# Altium footprint library AZ1143-04F.PcbLib: 1 footprints
Each footprint in its own frame and in the unit in brackets; x right, y up, seen from the top. Pads: shape width x height; smd on the part's side, far side on the other; paste and mask are expansions set on the pad; w line width, h text height; cw(c..) or ccw(c..) is an arc to the next point about the centre after c.
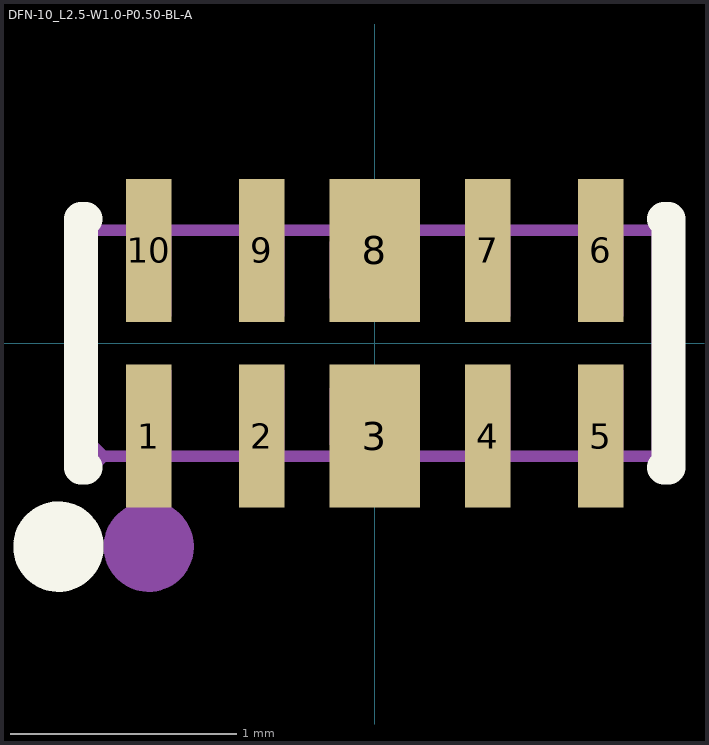
[diagram p0: the footprint, top view; thin cyan lines are the x and y axes]

## DFN-10_L2.5-W1.0-P0.50-BL-A [mm]
pads (10):
  rect 0.2x0.633 smd: 1(-1,-0.411) 2(-0.5,-0.411) 4(0.5,-0.411) 5(1,-0.411) 6(1,0.411) 7(0.5,0.411) 9(-0.5,0.411) 10(-1,0.411)
  rect 0.4x0.633 smd: 3(0,-0.411) 8(0,0.411)
Top Overlay:
  circle w0.2: c-1.4,-0.9 r0.1
  lines w0.152: -1.28,-0.55 -1.3,-0.55 -1.3,0.55 -1.28,0.55 ; 1.28,-0.55 1.3,-0.55 1.3,0.55 1.28,0.55
Mechanical 6:
  circle w0.2: c-1,-0.9 r0.1
Mechanical 15:
  region: -0.2,-0.45 0.2,-0.45 0.2,-0.2 0.1,-0.2 0.1,-0.1 -0.1,-0.1 -0.1,-0.2 -0.2,-0.2
  region: 0.2,0.45 0.2,0.2 -0.2,0.2 -0.2,0.45
  region: 1.1,0.5 1.1,0.12 0.9,0.12 0.9,0.5
  region: 1.1,-0.5 1.1,-0.12 0.9,-0.12 0.9,-0.5
  region: 0.6,0.5 0.6,0.12 0.4,0.12 0.4,0.5
  region: 0.6,-0.5 0.6,-0.12 0.4,-0.12 0.4,-0.5
  region: -0.4,0.5 -0.4,0.12 -0.6,0.12 -0.6,0.5
  region: -0.4,-0.5 -0.4,-0.12 -0.6,-0.12 -0.6,-0.5
  region: -0.9,0.5 -0.9,0.12 -1.1,0.12 -1.1,0.5
  region: -0.9,-0.5 -0.9,-0.12 -1.1,-0.12 -1.1,-0.5
  region: -1.19,-0.5 -1.19,-0.476 -1.225,-0.441 -1.274,-0.441 -1.309,-0.476 -1.31,-0.5 -1.309,-0.525 -1.274,-0.559 -1.225,-0.559 -1.19,-0.525 -1.19,-0.5
  lines w0.051: -1.25,-0.5 1.25,-0.5 1.25,0.5 -1.25,0.5 -1.25,-0.5